# Altium footprint library BLDC_Controller.PcbLib: 15 footprints
Each footprint in its own frame and in the unit in brackets; x right, y up, seen from the top. Pads: shape width x height; smd on the part's side, far side on the other; paste and mask are expansions set on the pad; w line width, h text height; cw(c..) or ccw(c..) is an arc to the next point about the centre after c.
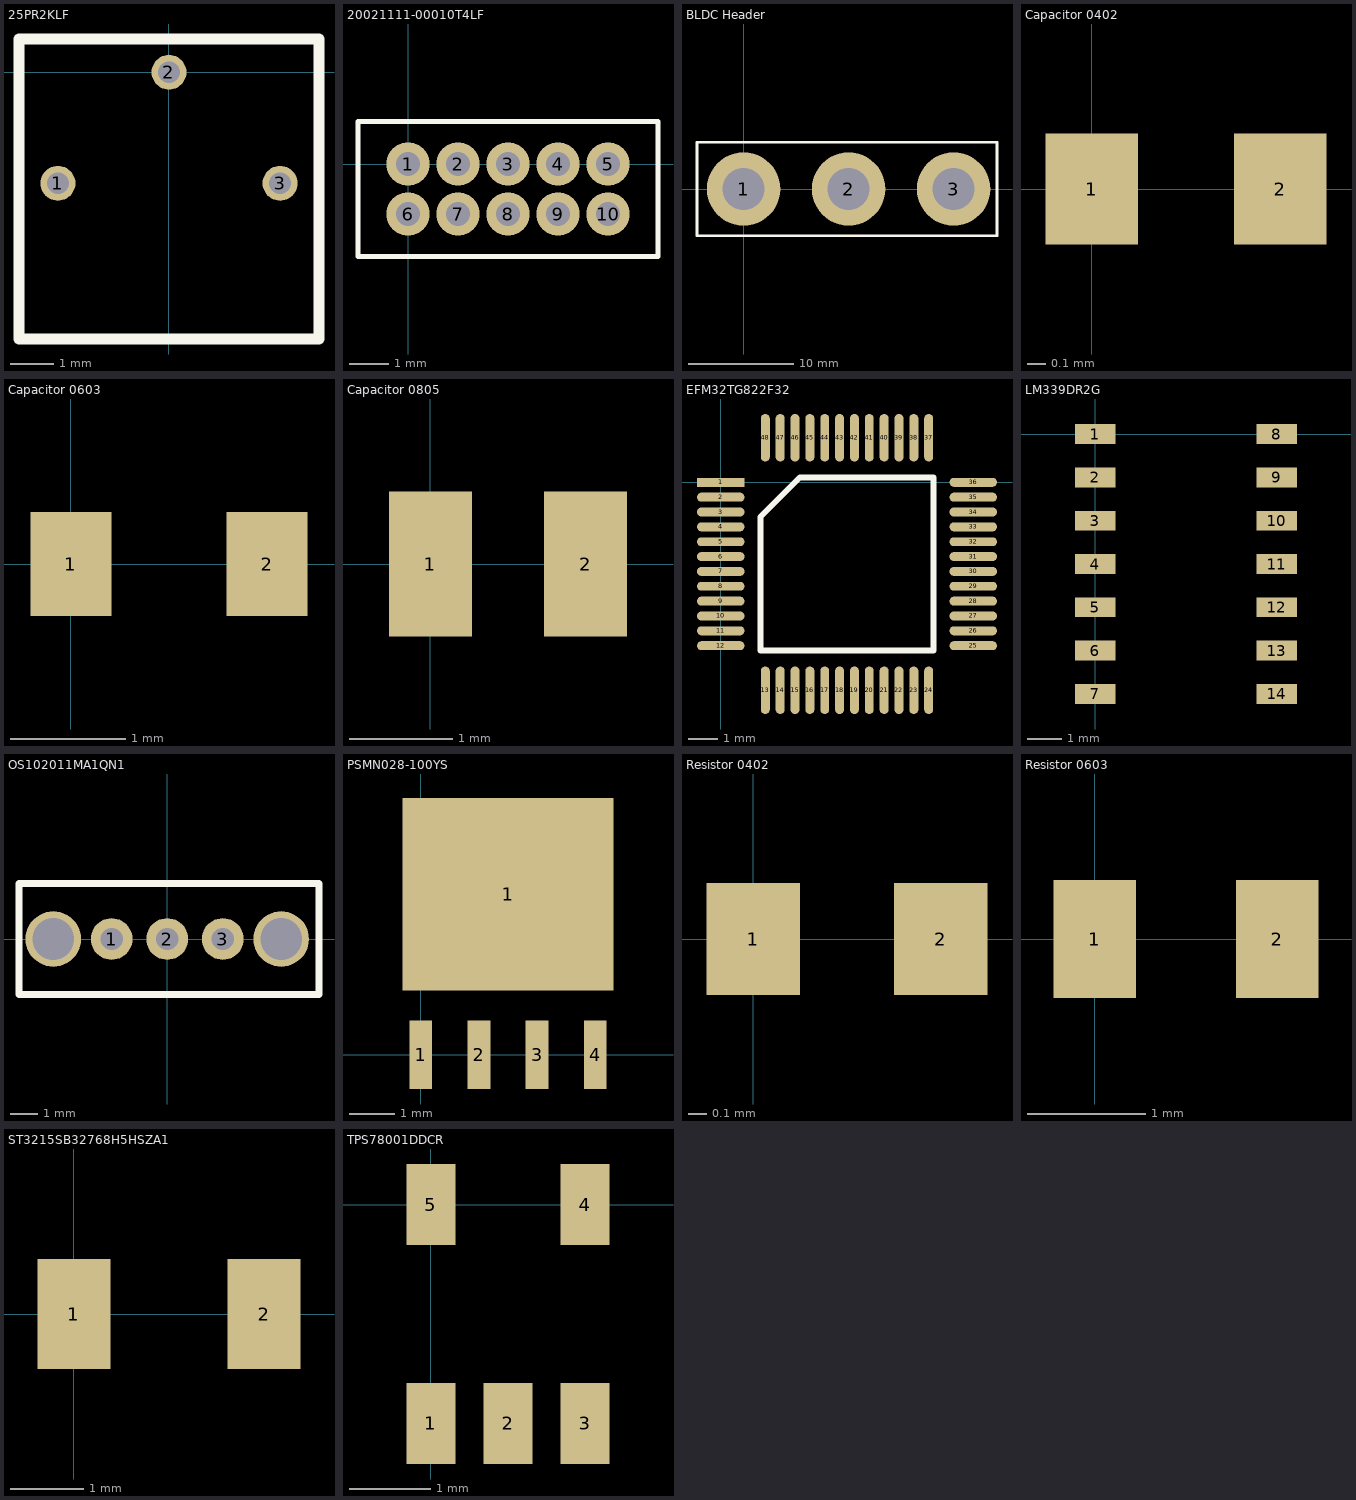
[diagram p0: the footprints below, top view; thin cyan lines are the x and y axes]

## 25PR2KLF [mm]
pads (3):
  round 0.8 hole 0.5: 1(-2.54,-2.54) 2(0,0) 3(2.54,-2.54)
Top Overlay:
  lines w0.254: 3.43,-6.1 -3.43,-6.1 -3.43,0.76 3.43,0.76 3.43,-6.07

## 20021111-00010T4LF [mm]
pads (10):
  round 1.1 hole 0.6: 1(0,0) 2(1.27,0) 3(2.54,0) 4(3.81,0) 5(5.08,0) 6(0,-1.27) 7(1.27,-1.27) 8(2.54,-1.27) 9(3.81,-1.27) 10(5.08,-1.27)
Top Overlay:
  lines w0.127: -1.27,-2.35 -1.27,1.08 6.35,1.08 6.35,-2.35 -1.27,-2.35

## BLDC Header [mm]
pads (3):
  round 7 hole 4: 1(0,0) 2(10,0) 3(20,0)
Top Overlay:
  lines w0.254: -4.445,-4.445 -4.445,4.445 24.13,4.445 24.13,-4.445 -4.445,-4.445

## Capacitor 0402 [mm]
pads (2):
  rect 0.5x0.6 smd: 1(0,0) 2(1.016,0)

## Capacitor 0603 [mm]
pads (2):
  rect 0.7x0.9 smd: 1(0,0) 2(1.7,0)

## Capacitor 0805 [mm]
pads (2):
  rect 0.8x1.4 smd: 1(0,0) 2(1.5,0)

## EFM32TG822F32 [mm]
pads (48):
  rect 1.6x0.3 smd: 1(0,0)
  oval 1.6x0.3 smd: 2(0,-0.5) 3(0,-1) 4(0,-1.5) 5(0,-2) 6(0,-2.5) 7(0,-3) 8(0,-3.5) 9(0,-4) 10(0,-4.5) 11(0,-5) 12(0,-5.5) 25(8.5,-5.5) 26(8.5,-5) 27(8.5,-4.5) 28(8.5,-4) 29(8.5,-3.5) 30(8.5,-3) 31(8.5,-2.5) 32(8.5,-2) 33(8.5,-1.5) 34(8.5,-1) 35(8.5,-0.5) 36(8.5,0)
  oval 0.3x1.6 smd: 13(1.5,-7) 14(2,-7) 15(2.5,-7) 16(3,-7) 17(3.5,-7) 18(4,-7) 19(4.5,-7) 20(5,-7) 21(5.5,-7) 22(6,-7) 23(6.5,-7) 24(7,-7) 37(7,1.5) 38(6.5,1.5) 39(6,1.5) 40(5.5,1.5) 41(5,1.5) 42(4.5,1.5) 43(4,1.5) 44(3.5,1.5) 45(3,1.5) 46(2.5,1.5) 47(2,1.5) 48(1.5,1.5)
Top Overlay:
  lines w0.2: 1.335,-5.665 1.335,-1.17 2.67,0.165 7.165,0.165 7.165,-5.665 1.335,-5.665

## LM339DR2G [mm]
pads (14):
  rect 1.18x0.58 smd: 1(0,0) 2(0,-1.27) 3(0,-2.54) 4(0,-3.81) 5(0,-5.08) 6(0,-6.35) 7(0,-7.62) 8(5.32,0) 9(5.32,-1.27) 10(5.32,-2.54) 11(5.32,-3.81) 12(5.32,-5.08) 13(5.32,-6.35) 14(5.32,-7.62)

## OS102011MA1QN1 [mm]
pads (5):
  round 1.5 hole 0.8: 1(-2,0) 2(0,0) 3(2,0)
  round 2 hole 1.5: ""(-4.1,0) ""(4.1,0)
Top Overlay:
  lines w0.254: -5.334,-2 -5.334,2 5.461,2 5.461,-2 -5.334,-2

## PSMN028-100YS [mm]
pads (5):
  rect 0.5x1.5 smd: 1(0,0) 2(1.27,0) 3(2.54,0) 4(3.81,0)
  rect 4.6x4.2 smd: 1(1.905,3.5)

## Resistor 0402 [mm]
pads (2):
  rect 0.5x0.6 smd: 1(0,0) 2(1,0)

## Resistor 0603 [mm]
pads (2):
  rect 0.7x1 smd: 1(0,0) 2(1.55,0)

## ST3215SB32768H5HSZA1 [mm]
pads (2):
  rect 1x1.5 smd: 1(0,0) 2(2.6,0)

## STK984-190-E-D [mm]

## TPS78001DDCR [mm]
pads (5):
  rect 0.6x1 smd: 1(0,-2.7) 2(0.95,-2.7) 3(1.9,-2.7) 4(1.9,0) 5(0,0)